# Altium footprint library XDCR_AI-2331-TWT-R.PcbLib: 1 footprints
Each footprint in its own frame and in the unit in brackets; x right, y up, seen from the top. Pads: shape width x height; smd on the part's side, far side on the other; paste and mask are expansions set on the pad; w line width, h text height; cw(c..) or ccw(c..) is an arc to the next point about the centre after c.
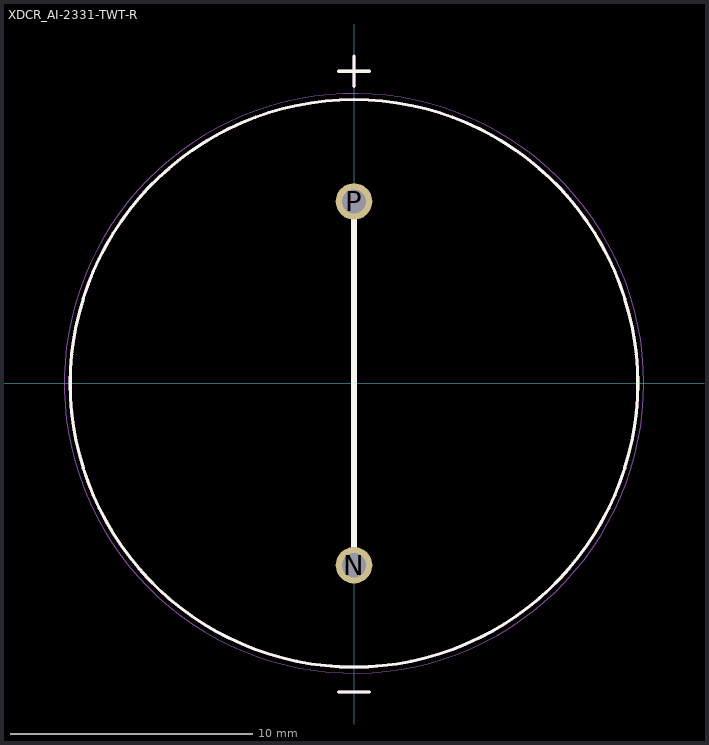
[diagram p0: the footprint, top view; thin cyan lines are the x and y axes]

## XDCR_AI-2331-TWT-R [mm]
pads (2):
  round 1.508 hole 1: N(0,-7.5) P(0,7.5)
Top Layer:
  lines w0.254: 0,-7.5 0,7.5
Top Overlay:
  circle w0.127: c0,0 r11.7
  lines w0.127: -0.635,-12.735 0.635,-12.735 ; -0.635,12.87 0.635,12.87 ; 0,12.235 0,13.505
  lines w0.254: 0,-7.5 0,7.5
Mechanical 13:
  circle w0.127: c0,0 r11.7
  lines w0.127: -0.635,-12.735 0.635,-12.735 ; -0.635,12.87 0.635,12.87 ; 0,12.235 0,13.505
Mechanical 15:
  circle w0.05: c0,0 r11.95
3D body "step_temp.STEP": height 10.38, standoff -6.42, extent -11.7,-11.699 11.7,11.7